# EAGLE library part ADS1100 (library ads11xx)
Analog/Digital conventer i2c Bus
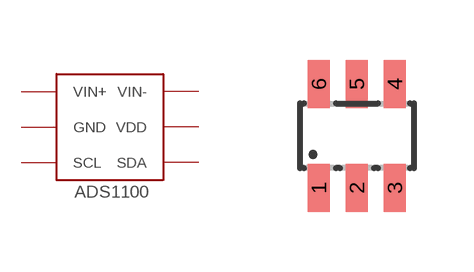
[diagram p1: symbol with the pads of SOT-23-6; footprint SOT-23-6]

Designator prefix -

## ADS1100  [SOT-23-6]
1  VIN+
2  GND
3  SCL
4  SDA
5  VDD
6  VIN-

## Footprint SOT-23-6 (pad centres in mm)
Small Outline SOT-23-6 Created by Slawomir Grzegorzek tygrysek@vidmo.net
smd 0.55 x 1.2: 1 -0.95,-1.3; 2 0,-1.3; 3 0.95,-1.3; 4 0.95,1.3; 5 0,1.3; 6 -0.95,1.3